# EAGLE library part STC3100 (library Bauteile)
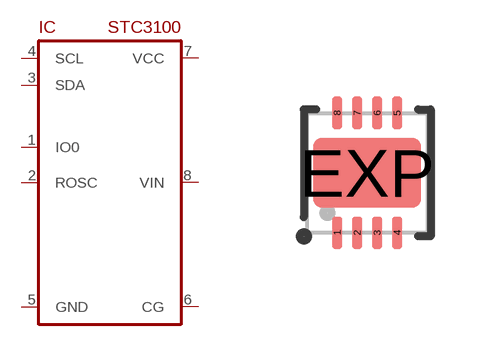
[diagram p133: symbol with the pads of DFN8_3X3; footprint DFN8_3X3]

Designator prefix IC

## STC3100  [DFN8_3X3]
1  IO0
2  ROSC
3  SDA
4  SCL
5  GND
6  CG
7  VCC
8  VIN

## Footprint DFN8_3X3 (pad centres in mm)
smd 0.25 x 0.8: 1 -0.75,-1.5; 2 -0.25,-1.5; 3 0.25,-1.5; 4 0.75,-1.5; 5 0.75,1.5; 6 0.25,1.5; 7 -0.25,1.5; 8 -0.75,1.5
smd 2.7 x 1.75: EXP 0,0